# Altium schematic symbol library IRF9Z24N.SchLib: 1 symbol
Pins are listed as number, name and electrical type; pins without a type are passive.

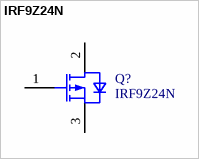
[diagram p0: symbol IRF9Z24N]

## IRF9Z24N
designator Q?
OptiMOS - P2 Power-Transistor, P-channel-Enhancement mode, VDS -30V; Manufacturer: Infineon Technologies; Manufacturer Order NumberManufacturer Order Number: IRF9Z24N; PackageReference: PG-TO220-3-904
pins: 1 GATE, 2 DRAIN, 3 SOURCE